# Altium schematic symbol library IND - Fixed Inductors 0402.SchLib: 42 symbols (part 2 of 2)
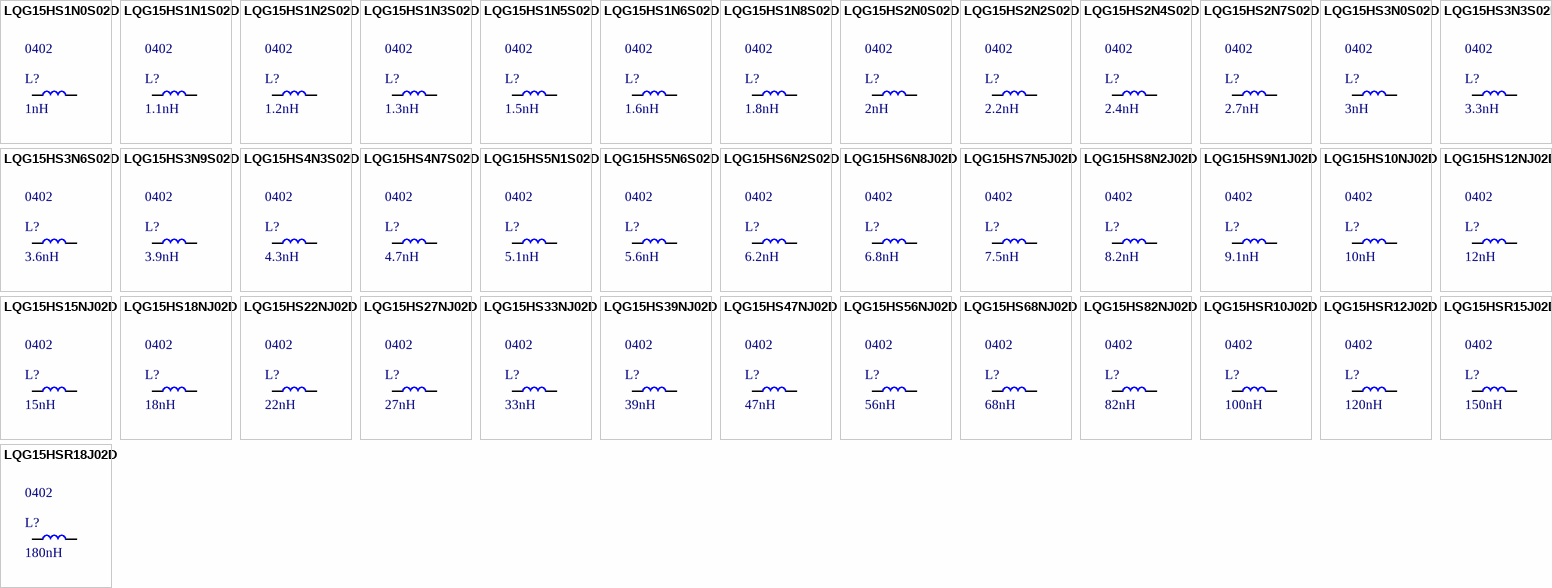
[diagram p2: symbols LQG15HS1N0S02D to LQG15HSR18J02D]

## LQG15HSR18J02D
designator L?, comment 180nH  Package / Case: 0402
FIXED IND 180NH 150MA 3.38 OHM; Manufacturer: Murata Electronics North America; Manufacturer Part Number: LQG15HSR18J02D; Type: Multilayer; Tolerance: ±5%; Shielding: Unshielded; DC Resistance (DCR): 3.38 Ohm Max; Q @ Freq: 8 @ 100MHz; Frequency - Self Resonant: 500MHz; Frequency - Test: 100MHz; Supplier 1: Digi-Key; RoHS: RoHS Compliant; Category: Inductors, Coils, Chokes; Stock 1: 5742; Pricing 1: 1=0.1, 10=0.076, 25=0.068, 50=0.0588, 100=0.0529, 250=0.04908, 500=0.0453, 750=0.04304, 1000=0.03926 (USD); Packaging: Cut Tape (CT); Part Status: Active; Material - Core: -; Inductance: 180nH; Current Rating: 150mA; Current - Saturation: -; Ratings: -; Operating Temperature: -55°C ~ 125°C; Mounting Type: Surface Mount; Supplier Device Package: 0402 (1005 Metric); Size / Dimension: 0.039" L x 0.020" W (1.00mm x 0.50mm); Height - Seated (Max): 0.022" (0.55mm); ComponentLink1URL: http://psearch.en.murata.com/inductor/product/LQG15HSR18J02_.pdf; ComponentLink1Description: http://psearch.en.murata.com/inductor/product/LQG15HSR18J02_.pdf; Supplier Part Number 1: 490-2638-1-ND
footprint L 0402 (1005) (Chip Capacitor, 2-Leads, Body 1.0x0.5mm, IPC Medium Density)
pins: 1, 2

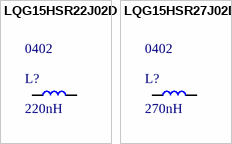
[diagram p1: symbols LQG15HSR22J02D to LQG15HSR27J02D]

## LQG15HSR22J02D
designator L?, comment 220nH  Package / Case: 0402
FIXED IND 220NH 120MA 3.77 OHM; Manufacturer: Murata Electronics North America; Manufacturer Part Number: LQG15HSR22J02D; Type: Multilayer; Tolerance: ±5%; Shielding: Unshielded; DC Resistance (DCR): 3.77 Ohm Max; Q @ Freq: 8 @ 100MHz; Frequency - Self Resonant: 450MHz; Frequency - Test: 100MHz; Supplier 1: Digi-Key; RoHS: RoHS Compliant; Category: Inductors, Coils, Chokes; Stock 1: 53052; Pricing 1: 1=0.1, 10=0.076, 25=0.068, 50=0.0588, 100=0.0529, 250=0.04908, 500=0.0453, 750=0.04304, 1000=0.03926 (USD); Packaging: Cut Tape (CT); Part Status: Active; Material - Core: -; Inductance: 220nH; Current Rating: 120mA; Current - Saturation: -; Ratings: -; Operating Temperature: -55°C ~ 125°C; Mounting Type: Surface Mount; Supplier Device Package: 0402 (1005 Metric); Size / Dimension: 0.039" L x 0.020" W (1.00mm x 0.50mm); Height - Seated (Max): 0.022" (0.55mm); ComponentLink1URL: http://psearch.en.murata.com/inductor/product/LQG15HSR22J02_.pdf; ComponentLink1Description: http://psearch.en.murata.com/inductor/product/LQG15HSR22J02_.pdf; Supplier Part Number 1: 490-2639-1-ND
footprint L 0402 (1005) (Chip Capacitor, 2-Leads, Body 1.0x0.5mm, IPC Medium Density)
pins: 1, 2

## LQG15HSR27J02D
designator L?, comment 270nH  Package / Case: 0402
FIXED IND 270NH 110MA 4.94 OHM; Manufacturer: Murata Electronics North America; Manufacturer Part Number: LQG15HSR27J02D; Type: Multilayer; Tolerance: ±5%; Shielding: Unshielded; DC Resistance (DCR): 4.94 Ohm Max; Q @ Freq: 8 @ 100MHz; Frequency - Self Resonant: 400MHz; Frequency - Test: 100MHz; Supplier 1: Digi-Key; RoHS: RoHS Compliant; Category: Inductors, Coils, Chokes; Stock 1: 51179; Pricing 1: 1=0.1, 10=0.076, 25=0.068, 50=0.0588, 100=0.0529, 250=0.04908, 500=0.0453, 750=0.04304, 1000=0.03926 (USD); Packaging: Cut Tape (CT); Part Status: Active; Material - Core: -; Inductance: 270nH; Current Rating: 110mA; Current - Saturation: -; Ratings: -; Operating Temperature: -55°C ~ 125°C; Mounting Type: Surface Mount; Supplier Device Package: 0402 (1005 Metric); Size / Dimension: 0.039" L x 0.020" W (1.00mm x 0.50mm); Height - Seated (Max): 0.022" (0.55mm); ComponentLink1URL: http://psearch.en.murata.com/inductor/product/LQG15HSR27J02_.pdf; ComponentLink1Description: http://psearch.en.murata.com/inductor/product/LQG15HSR27J02_.pdf; Supplier Part Number 1: 490-2640-1-ND
footprint L 0402 (1005) (Chip Capacitor, 2-Leads, Body 1.0x0.5mm, IPC Medium Density)
pins: 1, 2